# Altium footprint library connectors.PcbLib: 68 footprints (part 3 of 5)
Each footprint in its own frame and in the unit in brackets; x right, y up, seen from the top. Pads: shape width x height; smd on the part's side, far side on the other; paste and mask are expansions set on the pad; w line width, h text height; cw(c..) or ccw(c..) is an arc to the next point about the centre after c.
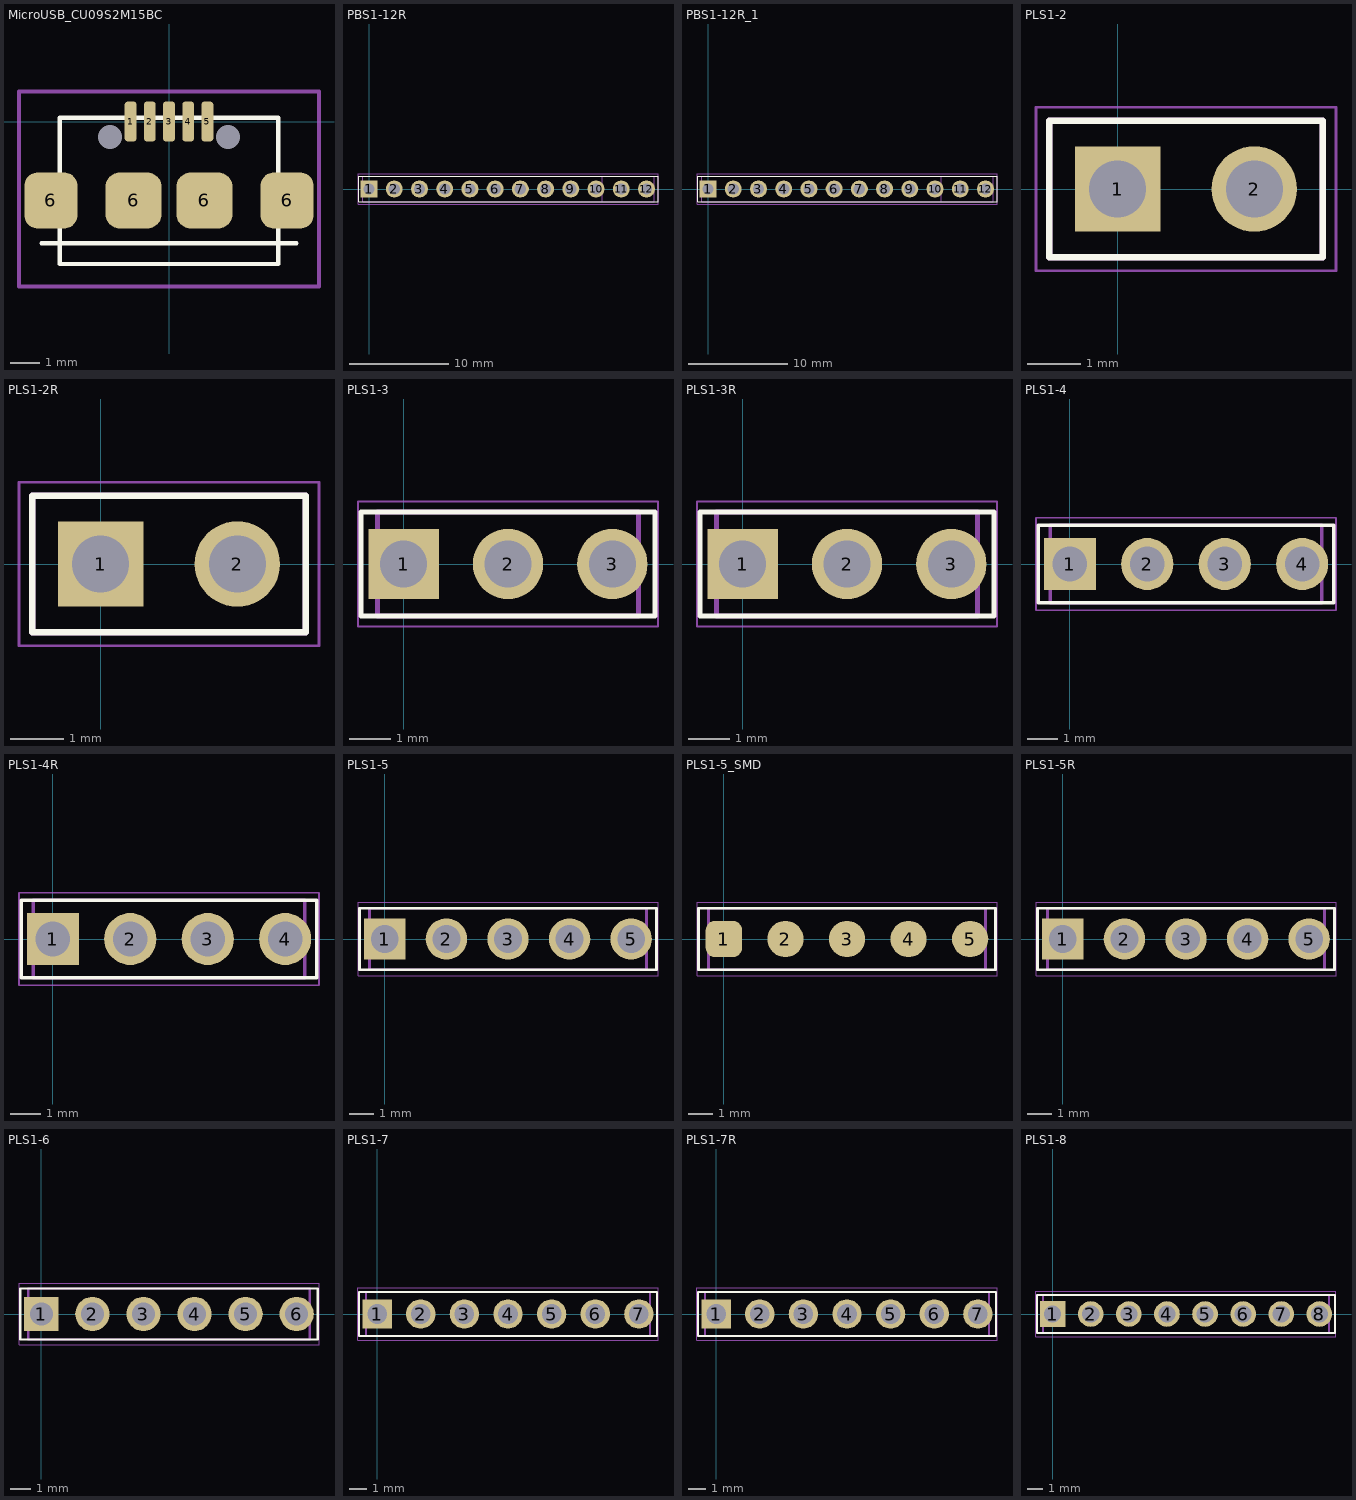
[diagram p2: the footprints below, top view; thin cyan lines are the x and y axes]

## MicroUSB_CU09S2M15BC [mm]
height 2.35
pads (11):
  round 0 hole 0.8 unplated: 0(-2,-0.525) 0(2,-0.525)
  rrect50% 0.4x1.35 smd mask+0.075: 1(-1.3,0) 2(-0.65,0) 3(0,0) 4(0.65,0) 5(1.3,0)
  rrect50% 1.8x1.9 smd: 6(-4,-2.675) 6(4,-2.675)
  rrect50% 1.9x1.9 smd: 6(-1.2,-2.675) 6(1.2,-2.675)
Top Overlay:
  lines w0.15: -4.318,-4.125 4.318,-4.125 ; -3.7,-2.921 -4.445,-2.921 -4.191,-2.667 -4.445,-2.413 -3.7,-2.413 ; 3.7,-2.921 4.445,-2.921 4.191,-2.667 4.445,-2.413 3.7,-2.413 ; -3.7,-4.825 3.7,-4.825 3.7,0.127 -3.7,0.127 -3.7,-4.825
Mechanical 15:
  lines w0.15: -5.08,-5.588 -5.08,-2.54 -5.08,0.762 -5.08,1.016 5.08,1.016 5.08,-5.588 -5.08,-5.588

## PBS1-12R [mm] "Header, Vertical, 2.54 mm pitch; 0.70 mm lead width, 10 pins, 1 row, 10 pins per row, 24.13 mm L X 2.54 mm W X 7.54 mm H body"
height 7.54
pads (12):
  rect 1.71x1.71 hole 1.14 paste-2539.97: 1(0,0)
  round 1.71 hole 1.14 paste-2539.97: 2(2.54,0) 3(5.08,0) 4(7.62,0) 5(10.16,0) 6(12.7,0) 7(15.24,0) 8(17.78,0) 9(20.32,0) 10(22.86,0) 11(25.4,0) 12(27.94,0)
Top Overlay:
  lines w0.12: -1.04,-1.27 -1.04,1.27 29.1,1.27 29.1,-1.27 -1.04,-1.27
Mechanical 11:
  lines w0.12: -0.64,-1.27 -0.64,1.27 28.7,1.27 28.7,-1.27 -0.64,-1.27
Mechanical 12:
  lines w0.025: -0.635,-1.27 -0.635,1.27 23.495,1.27 23.495,-1.27 -0.635,-1.27 ; -0.35,-0.35 -0.35,0.35 0.35,0.35 0.35,-0.35 -0.35,-0.35 ; 2.19,-0.35 2.19,0.35 2.89,0.35 2.89,-0.35 2.19,-0.35 ; 4.73,-0.35 4.73,0.35 5.43,0.35 5.43,-0.35 4.73,-0.35 ; 7.27,-0.35 7.27,0.35 7.97,0.35 7.97,-0.35 7.27,-0.35 ; 9.81,-0.35 9.81,0.35 10.51,0.35 10.51,-0.35 9.81,-0.35 ; 12.35,-0.35 12.35,0.35 13.05,0.35 13.05,-0.35 12.35,-0.35 ; 14.89,-0.35 14.89,0.35 15.59,0.35 15.59,-0.35 14.89,-0.35 ; 17.43,-0.35 17.43,0.35 18.13,0.35 18.13,-0.35 17.43,-0.35 ; 19.97,-0.35 19.97,0.35 20.67,0.35 20.67,-0.35 19.97,-0.35 ; 22.51,-0.35 22.51,0.35 23.21,0.35 23.21,-0.35 22.51,-0.35
Mechanical 15:
  circle w0.05: c0,0 r0.25
  lines w0.05: -0.35,0 0.35,0 ; 0,-0.35 0,0.35 ; -1.11,-1.52 -1.11,1.52 29.1,1.52 29.1,-1.52 -1.11,-1.52
3D body "PinSocket_1x12_P2.54mm_Horizontal.step": height 2.54, standoff -3.3, extent -1.27,-10.03 29.21,0.1

## PBS1-12R_1 [mm] "Header, Vertical, 2.54 mm pitch; 0.70 mm lead width, 10 pins, 1 row, 10 pins per row, 24.13 mm L X 2.54 mm W X 7.54 mm H body"
height 7.54
pads (12):
  rect 1.71x1.71 hole 1.14 paste-2539.97: 1(0,0)
  round 1.71 hole 1.14 paste-2539.97: 2(2.54,0) 3(5.08,0) 4(7.62,0) 5(10.16,0) 6(12.7,0) 7(15.24,0) 8(17.78,0) 9(20.32,0) 10(22.86,0) 11(25.4,0) 12(27.94,0)
Top Overlay:
  lines w0.12: -1.04,-1.27 -1.04,1.27 29.1,1.27 29.1,-1.27 -1.04,-1.27
Mechanical 11:
  lines w0.12: -0.64,-1.27 -0.64,1.27 28.7,1.27 28.7,-1.27 -0.64,-1.27
Mechanical 12:
  lines w0.025: -0.635,-1.27 -0.635,1.27 23.495,1.27 23.495,-1.27 -0.635,-1.27 ; -0.35,-0.35 -0.35,0.35 0.35,0.35 0.35,-0.35 -0.35,-0.35 ; 2.19,-0.35 2.19,0.35 2.89,0.35 2.89,-0.35 2.19,-0.35 ; 4.73,-0.35 4.73,0.35 5.43,0.35 5.43,-0.35 4.73,-0.35 ; 7.27,-0.35 7.27,0.35 7.97,0.35 7.97,-0.35 7.27,-0.35 ; 9.81,-0.35 9.81,0.35 10.51,0.35 10.51,-0.35 9.81,-0.35 ; 12.35,-0.35 12.35,0.35 13.05,0.35 13.05,-0.35 12.35,-0.35 ; 14.89,-0.35 14.89,0.35 15.59,0.35 15.59,-0.35 14.89,-0.35 ; 17.43,-0.35 17.43,0.35 18.13,0.35 18.13,-0.35 17.43,-0.35 ; 19.97,-0.35 19.97,0.35 20.67,0.35 20.67,-0.35 19.97,-0.35 ; 22.51,-0.35 22.51,0.35 23.21,0.35 23.21,-0.35 22.51,-0.35
Mechanical 15:
  circle w0.05: c0,0 r0.25
  lines w0.05: -0.35,0 0.35,0 ; 0,-0.35 0,0.35 ; -1.11,-1.52 -1.11,1.52 29.1,1.52 29.1,-1.52 -1.11,-1.52
3D body "PinSocket_1x12_P2.54mm_Horizontal.step": height 2.54, standoff -3.3, extent -1.27,-0.1 29.21,10.03

## PLS1-2 [mm] "Header, Vertical, 2.54 mm pitch; 0.64 mm lead width, 2 pins, 1 row, 2 pins per row, 5.08 mm L X 2.54 mm W X 8.54 mm H body"
height 8.54
pads (2):
  rect 1.59x1.59 hole 1.06 paste-2539.97: 1(0,0)
  round 1.59 hole 1.06 paste-2539.97: 2(2.54,0)
Top Overlay:
  lines w0.12: -1.27,-1.27 3.81,-1.27 3.81,1.27 -1.27,1.27 -1.27,-1.27
Mechanical 11:
  lines w0.12: -1.27,-1.27 3.81,-1.27 3.81,1.27 -1.27,1.27 -1.27,-1.27
Mechanical 12:
  lines w0.025: -1.27,-1.27 3.81,-1.27 3.81,1.27 -1.27,1.27 -1.27,-1.27 ; -0.32,-0.32 0.32,-0.32 0.32,0.32 -0.32,0.32 -0.32,-0.32 ; 2.22,-0.32 2.86,-0.32 2.86,0.32 2.22,0.32 2.22,-0.32
Mechanical 15:
  circle w0.05: c0,0 r0.25
  lines w0.05: -0.35,0 0.35,0 ; 0,-0.35 0,0.35 ; -1.52,-1.52 4.06,-1.52 4.06,1.52 -1.52,1.52 -1.52,-1.52
3D body "HDRV2W64P254_2X1_508X254H854.STEP": height 8.54, standoff -2.3, extent -1.27,-1.27 3.81,1.27

## PLS1-2R [mm] "Header, Vertical, 2.54 mm pitch; 0.64 mm lead width, 2 pins, 1 row, 2 pins per row, 5.08 mm L X 2.54 mm W X 8.54 mm H body"
height 8.54
pads (2):
  rect 1.59x1.59 hole 1.06 paste-2539.97: 1(0,0)
  round 1.59 hole 1.06 paste-2539.97: 2(2.54,0)
Top Overlay:
  lines w0.12: -1.27,-1.27 3.81,-1.27 3.81,1.27 -1.27,1.27 -1.27,-1.27
Mechanical 11:
  lines w0.12: -1.27,-1.27 3.81,-1.27 3.81,1.27 -1.27,1.27 -1.27,-1.27
Mechanical 12:
  lines w0.025: -1.27,-1.27 3.81,-1.27 3.81,1.27 -1.27,1.27 -1.27,-1.27 ; -0.32,-0.32 0.32,-0.32 0.32,0.32 -0.32,0.32 -0.32,-0.32 ; 2.22,-0.32 2.86,-0.32 2.86,0.32 2.22,0.32 2.22,-0.32
Mechanical 15:
  circle w0.05: c0,0 r0.25
  lines w0.05: -0.35,0 0.35,0 ; 0,-0.35 0,0.35 ; -1.52,-1.52 4.06,-1.52 4.06,1.52 -1.52,1.52 -1.52,-1.52
3D body "PinHeader_1x02_P2.54mm_Horizontal.step": height 2.54, standoff -3, extent -1.27,-0.32 3.81,10.04

## PLS1-3 [mm] "Header, Vertical, 2.54 mm pitch; 0.70 mm lead width, 3 pins, 1 row, 3 pins per row, 6.35 mm L X 2.54 mm W X 7.54 mm H body"
height 7.54
pads (3):
  rect 1.71x1.71 hole 1.14 paste-2539.97: 1(0,0)
  round 1.71 hole 1.14 paste-2539.97: 2(2.54,0) 3(5.08,0)
Top Overlay:
  lines w0.12: -1.04,-1.27 6.12,-1.27 6.12,1.27 -1.04,1.27 -1.04,-1.27
Mechanical 11:
  lines w0.12: -0.64,-1.27 5.72,-1.27 5.72,1.27 -0.64,1.27 -0.64,-1.27
Mechanical 12:
  lines w0.025: -0.635,-1.27 5.715,-1.27 5.715,1.27 -0.635,1.27 -0.635,-1.27 ; -0.35,-0.35 0.35,-0.35 0.35,0.35 -0.35,0.35 -0.35,-0.35 ; 2.19,-0.35 2.89,-0.35 2.89,0.35 2.19,0.35 2.19,-0.35 ; 4.73,-0.35 5.43,-0.35 5.43,0.35 4.73,0.35 4.73,-0.35
Mechanical 15:
  circle w0.05: c0,0 r0.25
  lines w0.05: -0.35,0 0.35,0 ; 0,-0.35 0,0.35 ; -1.11,-1.52 6.19,-1.52 6.19,1.52 -1.11,1.52 -1.11,-1.52
3D body "HDRV3W70P254_3X1_635X254H754.STEP": height 7.54, standoff -2.3, extent -0.635,-1.27 5.715,1.27

## PLS1-3R [mm] "Header, Vertical, 2.54 mm pitch; 0.70 mm lead width, 3 pins, 1 row, 3 pins per row, 6.35 mm L X 2.54 mm W X 7.54 mm H body"
height 7.54
pads (3):
  rect 1.71x1.71 hole 1.14 paste-2539.97: 1(0,0)
  round 1.71 hole 1.14 paste-2539.97: 2(2.54,0) 3(5.08,0)
Top Overlay:
  lines w0.12: -1.04,-1.27 6.12,-1.27 6.12,1.27 -1.04,1.27 -1.04,-1.27
Mechanical 11:
  lines w0.12: -0.64,-1.27 5.72,-1.27 5.72,1.27 -0.64,1.27 -0.64,-1.27
Mechanical 12:
  lines w0.025: -0.635,-1.27 5.715,-1.27 5.715,1.27 -0.635,1.27 -0.635,-1.27 ; -0.35,-0.35 0.35,-0.35 0.35,0.35 -0.35,0.35 -0.35,-0.35 ; 2.19,-0.35 2.89,-0.35 2.89,0.35 2.19,0.35 2.19,-0.35 ; 4.73,-0.35 5.43,-0.35 5.43,0.35 4.73,0.35 4.73,-0.35
Mechanical 15:
  circle w0.05: c0,0 r0.25
  lines w0.05: -0.35,0 0.35,0 ; 0,-0.35 0,0.35 ; -1.11,-1.52 6.19,-1.52 6.19,1.52 -1.11,1.52 -1.11,-1.52
3D body "PinHeader_1x03_P2.54mm_Horizontal.step": height 2.54, standoff -3, extent -1.27,-0.32 6.35,10.04

## PLS1-4 [mm] "Header, Vertical, 2.54 mm pitch; 0.70 mm lead width, 4 pins, 1 row, 4 pins per row, 8.89 mm L X 2.54 mm W X 7.54 mm H body"
height 7.54
pads (4):
  rect 1.71x1.71 hole 1.14 paste-2539.97: 1(0,0)
  round 1.71 hole 1.14 paste-2539.97: 2(2.54,0) 3(5.08,0) 4(7.62,0)
Top Overlay:
  lines w0.12: -1.04,-1.27 8.66,-1.27 8.66,1.27 -1.04,1.27 -1.04,-1.27
Mechanical 11:
  lines w0.12: -0.64,-1.27 8.26,-1.27 8.26,1.27 -0.64,1.27 -0.64,-1.27
Mechanical 12:
  lines w0.025: -0.635,-1.27 8.255,-1.27 8.255,1.27 -0.635,1.27 -0.635,-1.27 ; -0.35,-0.35 0.35,-0.35 0.35,0.35 -0.35,0.35 -0.35,-0.35 ; 2.19,-0.35 2.89,-0.35 2.89,0.35 2.19,0.35 2.19,-0.35 ; 4.73,-0.35 5.43,-0.35 5.43,0.35 4.73,0.35 4.73,-0.35 ; 7.27,-0.35 7.97,-0.35 7.97,0.35 7.27,0.35 7.27,-0.35
Mechanical 15:
  circle w0.05: c0,0 r0.25
  lines w0.05: -0.35,0 0.35,0 ; 0,-0.35 0,0.35 ; -1.11,-1.52 8.73,-1.52 8.73,1.52 -1.11,1.52 -1.11,-1.52
3D body "HDRV4W70P254_4X1_889X254H754.STEP": height 7.54, standoff -2.3, extent -0.635,-1.27 8.255,1.27

## PLS1-4R [mm] "Header, Vertical, 2.54 mm pitch; 0.70 mm lead width, 4 pins, 1 row, 4 pins per row, 8.89 mm L X 2.54 mm W X 7.54 mm H body"
height 7.54
pads (4):
  rect 1.71x1.71 hole 1.14 paste-2539.97: 1(0,0)
  round 1.71 hole 1.14 paste-2539.97: 2(2.54,0) 3(5.08,0) 4(7.62,0)
Top Overlay:
  lines w0.12: -1.04,-1.27 8.66,-1.27 8.66,1.27 -1.04,1.27 -1.04,-1.27
Mechanical 11:
  lines w0.12: -0.64,-1.27 8.26,-1.27 8.26,1.27 -0.64,1.27 -0.64,-1.27
Mechanical 12:
  lines w0.025: -0.635,-1.27 8.255,-1.27 8.255,1.27 -0.635,1.27 -0.635,-1.27 ; -0.35,-0.35 0.35,-0.35 0.35,0.35 -0.35,0.35 -0.35,-0.35 ; 2.19,-0.35 2.89,-0.35 2.89,0.35 2.19,0.35 2.19,-0.35 ; 4.73,-0.35 5.43,-0.35 5.43,0.35 4.73,0.35 4.73,-0.35 ; 7.27,-0.35 7.97,-0.35 7.97,0.35 7.27,0.35 7.27,-0.35
Mechanical 15:
  circle w0.05: c0,0 r0.25
  lines w0.05: -0.35,0 0.35,0 ; 0,-0.35 0,0.35 ; -1.11,-1.52 8.73,-1.52 8.73,1.52 -1.11,1.52 -1.11,-1.52
3D body "PinHeader_1x04_P2.54mm_Horizontal.step": height 2.54, standoff -3, extent -1.27,-0.32 8.89,10.04

## PLS1-5 [mm] "Header, Vertical, 2.54 mm pitch; 0.70 mm lead width, 5 pins, 1 row, 5 pins per row, 11.43 mm L X 2.54 mm W X 7.54 mm H body"
height 7.54
pads (5):
  rect 1.71x1.71 hole 1.14 paste-2539.97: 1(0,0)
  round 1.71 hole 1.14 paste-2539.97: 2(2.54,0) 3(5.08,0) 4(7.62,0) 5(10.16,0)
Top Overlay:
  lines w0.12: -1.04,-1.27 -1.04,1.27 11.2,1.27 11.2,-1.27 -1.04,-1.27
Mechanical 11:
  lines w0.12: -0.64,-1.27 -0.64,1.27 10.8,1.27 10.8,-1.27 -0.64,-1.27
Mechanical 12:
  lines w0.025: -0.635,-1.27 -0.635,1.27 10.795,1.27 10.795,-1.27 -0.635,-1.27 ; -0.35,-0.35 -0.35,0.35 0.35,0.35 0.35,-0.35 -0.35,-0.35 ; 2.19,-0.35 2.19,0.35 2.89,0.35 2.89,-0.35 2.19,-0.35 ; 4.73,-0.35 4.73,0.35 5.43,0.35 5.43,-0.35 4.73,-0.35 ; 7.27,-0.35 7.27,0.35 7.97,0.35 7.97,-0.35 7.27,-0.35 ; 9.81,-0.35 9.81,0.35 10.51,0.35 10.51,-0.35 9.81,-0.35
Mechanical 15:
  circle w0.05: c0,0 r0.25
  lines w0.05: -0.35,0 0.35,0 ; 0,-0.35 0,0.35 ; -1.11,-1.52 -1.11,1.52 11.27,1.52 11.27,-1.52 -1.11,-1.52
3D body "HDRV5W70P254_5X1_1143X254H754.STEP": height 7.54, standoff -2.3, extent -0.635,-1.27 10.795,1.27

## PLS1-5_SMD [mm] "For SWD"
height 7.54
pads (5):
  rrect50% 1.5x1.5 smd paste-2539.97: 1(0,0)
  round 1.5 smd paste-2539.97: 2(2.54,0) 3(5.08,0) 4(7.62,0) 5(10.16,0)
Top Overlay:
  lines w0.12: -1.04,-1.27 -1.04,1.27 11.2,1.27 11.2,-1.27 -1.04,-1.27
Mechanical 11:
  lines w0.12: -0.64,-1.27 -0.64,1.27 10.8,1.27 10.8,-1.27 -0.64,-1.27
Mechanical 12:
  lines w0.025: -0.635,-1.27 -0.635,1.27 10.795,1.27 10.795,-1.27 -0.635,-1.27 ; -0.35,-0.35 -0.35,0.35 0.35,0.35 0.35,-0.35 -0.35,-0.35 ; 2.19,-0.35 2.19,0.35 2.89,0.35 2.89,-0.35 2.19,-0.35 ; 4.73,-0.35 4.73,0.35 5.43,0.35 5.43,-0.35 4.73,-0.35 ; 7.27,-0.35 7.27,0.35 7.97,0.35 7.97,-0.35 7.27,-0.35 ; 9.81,-0.35 9.81,0.35 10.51,0.35 10.51,-0.35 9.81,-0.35
Mechanical 15:
  circle w0.05: c0,0 r0.25
  lines w0.05: -0.35,0 0.35,0 ; 0,-0.35 0,0.35 ; -1.11,-1.52 -1.11,1.52 11.27,1.52 11.27,-1.52 -1.11,-1.52

## PLS1-5R [mm] "Header, Vertical, 2.54 mm pitch; 0.70 mm lead width, 5 pins, 1 row, 5 pins per row, 11.43 mm L X 2.54 mm W X 7.54 mm H body"
height 7.54
pads (5):
  rect 1.71x1.71 hole 1.14 paste-2539.97: 1(0,0)
  round 1.71 hole 1.14 paste-2539.97: 2(2.54,0) 3(5.08,0) 4(7.62,0) 5(10.16,0)
Top Overlay:
  lines w0.12: -1.04,-1.27 11.2,-1.27 11.2,1.27 -1.04,1.27 -1.04,-1.27
Mechanical 11:
  lines w0.12: -0.64,-1.27 10.8,-1.27 10.8,1.27 -0.64,1.27 -0.64,-1.27
Mechanical 12:
  lines w0.025: -0.635,-1.27 10.795,-1.27 10.795,1.27 -0.635,1.27 -0.635,-1.27 ; -0.35,-0.35 0.35,-0.35 0.35,0.35 -0.35,0.35 -0.35,-0.35 ; 2.19,-0.35 2.89,-0.35 2.89,0.35 2.19,0.35 2.19,-0.35 ; 4.73,-0.35 5.43,-0.35 5.43,0.35 4.73,0.35 4.73,-0.35 ; 7.27,-0.35 7.97,-0.35 7.97,0.35 7.27,0.35 7.27,-0.35 ; 9.81,-0.35 10.51,-0.35 10.51,0.35 9.81,0.35 9.81,-0.35
Mechanical 15:
  circle w0.05: c0,0 r0.25
  lines w0.05: -0.35,0 0.35,0 ; 0,-0.35 0,0.35 ; -1.11,-1.52 11.27,-1.52 11.27,1.52 -1.11,1.52 -1.11,-1.52
3D body "PinHeader_1x05_P2.54mm_Horizontal.step": height 2.54, standoff -3, extent -1.27,-0.32 11.43,10.04

## PLS1-6 [mm] "Header, Vertical, 2.54 mm pitch; 0.70 mm lead width, 6 pins, 1 row, 6 pins per row, 13.97 mm L X 2.54 mm W X 7.54 mm H body"
height 7.54
pads (6):
  rect 1.71x1.71 hole 1.14 paste-2539.97: 1(0,0)
  round 1.71 hole 1.14 paste-2539.97: 2(2.54,0) 3(5.08,0) 4(7.62,0) 5(10.16,0) 6(12.7,0)
Top Overlay:
  lines w0.12: -1.04,-1.27 -1.04,1.27 13.74,1.27 13.74,-1.27 -1.04,-1.27
Mechanical 11:
  lines w0.12: -0.64,-1.27 -0.64,1.27 13.34,1.27 13.34,-1.27 -0.64,-1.27
Mechanical 12:
  lines w0.025: -0.635,-1.27 -0.635,1.27 13.335,1.27 13.335,-1.27 -0.635,-1.27 ; -0.35,-0.35 -0.35,0.35 0.35,0.35 0.35,-0.35 -0.35,-0.35 ; 2.19,-0.35 2.19,0.35 2.89,0.35 2.89,-0.35 2.19,-0.35 ; 4.73,-0.35 4.73,0.35 5.43,0.35 5.43,-0.35 4.73,-0.35 ; 7.27,-0.35 7.27,0.35 7.97,0.35 7.97,-0.35 7.27,-0.35 ; 9.81,-0.35 9.81,0.35 10.51,0.35 10.51,-0.35 9.81,-0.35 ; 12.35,-0.35 12.35,0.35 13.05,0.35 13.05,-0.35 12.35,-0.35
Mechanical 15:
  circle w0.05: c0,0 r0.25
  lines w0.05: -0.35,0 0.35,0 ; 0,-0.35 0,0.35 ; -1.11,-1.52 -1.11,1.52 13.81,1.52 13.81,-1.52 -1.11,-1.52
3D body "HDRV6W70P254_6X1_1397X254H754.STEP": height 7.54, standoff -2.3, extent -0.635,-1.27 13.335,1.27

## PLS1-7 [mm] "Header, Vertical, 2.54 mm pitch; 0.70 mm lead width, 7 pins, 1 row, 7 pins per row, 16.51 mm L X 2.54 mm W X 7.54 mm H body"
height 7.54
pads (7):
  rect 1.71x1.71 hole 1.14 paste-2539.97: 1(0,0)
  round 1.71 hole 1.14 paste-2539.97: 2(2.54,0) 3(5.08,0) 4(7.62,0) 5(10.16,0) 6(12.7,0) 7(15.24,0)
Top Overlay:
  lines w0.12: -1.04,-1.27 -1.04,1.27 16.28,1.27 16.28,-1.27 -1.04,-1.27
Mechanical 11:
  lines w0.12: -0.64,-1.27 -0.64,1.27 15.88,1.27 15.88,-1.27 -0.64,-1.27
Mechanical 12:
  lines w0.025: -0.635,-1.27 -0.635,1.27 15.875,1.27 15.875,-1.27 -0.635,-1.27 ; -0.35,-0.35 -0.35,0.35 0.35,0.35 0.35,-0.35 -0.35,-0.35 ; 2.19,-0.35 2.19,0.35 2.89,0.35 2.89,-0.35 2.19,-0.35 ; 4.73,-0.35 4.73,0.35 5.43,0.35 5.43,-0.35 4.73,-0.35 ; 7.27,-0.35 7.27,0.35 7.97,0.35 7.97,-0.35 7.27,-0.35 ; 9.81,-0.35 9.81,0.35 10.51,0.35 10.51,-0.35 9.81,-0.35 ; 12.35,-0.35 12.35,0.35 13.05,0.35 13.05,-0.35 12.35,-0.35 ; 14.89,-0.35 14.89,0.35 15.59,0.35 15.59,-0.35 14.89,-0.35
Mechanical 15:
  circle w0.05: c0,0 r0.25
  lines w0.05: -0.35,0 0.35,0 ; 0,-0.35 0,0.35 ; -1.11,-1.52 -1.11,1.52 16.35,1.52 16.35,-1.52 -1.11,-1.52
3D body "HDRV7W70P254_7X1_1651X254H754.STEP": height 7.54, standoff -2.3, extent -0.635,-1.27 15.875,1.27

## PLS1-7R [mm] "Header, Vertical, 2.54 mm pitch; 0.70 mm lead width, 7 pins, 1 row, 7 pins per row, 16.51 mm L X 2.54 mm W X 7.54 mm H body"
height 7.54
pads (7):
  rect 1.71x1.71 hole 1.14 paste-2539.97: 1(0,0)
  round 1.71 hole 1.14 paste-2539.97: 2(2.54,0) 3(5.08,0) 4(7.62,0) 5(10.16,0) 6(12.7,0) 7(15.24,0)
Top Overlay:
  lines w0.12: -1.04,-1.27 -1.04,1.27 16.28,1.27 16.28,-1.27 -1.04,-1.27
Mechanical 11:
  lines w0.12: -0.64,-1.27 -0.64,1.27 15.88,1.27 15.88,-1.27 -0.64,-1.27
Mechanical 12:
  lines w0.025: -0.635,-1.27 -0.635,1.27 15.875,1.27 15.875,-1.27 -0.635,-1.27 ; -0.35,-0.35 -0.35,0.35 0.35,0.35 0.35,-0.35 -0.35,-0.35 ; 2.19,-0.35 2.19,0.35 2.89,0.35 2.89,-0.35 2.19,-0.35 ; 4.73,-0.35 4.73,0.35 5.43,0.35 5.43,-0.35 4.73,-0.35 ; 7.27,-0.35 7.27,0.35 7.97,0.35 7.97,-0.35 7.27,-0.35 ; 9.81,-0.35 9.81,0.35 10.51,0.35 10.51,-0.35 9.81,-0.35 ; 12.35,-0.35 12.35,0.35 13.05,0.35 13.05,-0.35 12.35,-0.35 ; 14.89,-0.35 14.89,0.35 15.59,0.35 15.59,-0.35 14.89,-0.35
Mechanical 15:
  circle w0.05: c0,0 r0.25
  lines w0.05: -0.35,0 0.35,0 ; 0,-0.35 0,0.35 ; -1.11,-1.52 -1.11,1.52 16.35,1.52 16.35,-1.52 -1.11,-1.52
3D body "PinHeader_1x07_P2.54mm_Horizontal.step": height 2.54, standoff -3, extent -1.27,-0.32 16.51,10.04

## PLS1-8 [mm] "Header, Vertical, 2.54 mm pitch; 0.70 mm lead width, 8 pins, 1 row, 8 pins per row, 19.05 mm L X 2.54 mm W X 7.54 mm H body"
height 7.54
pads (8):
  rect 1.71x1.71 hole 1.14 paste-2539.97: 1(0,0)
  round 1.71 hole 1.14 paste-2539.97: 2(2.54,0) 3(5.08,0) 4(7.62,0) 5(10.16,0) 6(12.7,0) 7(15.24,0) 8(17.78,0)
Top Overlay:
  lines w0.12: -1.04,-1.27 18.82,-1.27 18.82,1.27 -1.04,1.27 -1.04,-1.27
Mechanical 11:
  lines w0.12: -0.64,-1.27 18.42,-1.27 18.42,1.27 -0.64,1.27 -0.64,-1.27
Mechanical 12:
  lines w0.025: -0.635,-1.27 18.415,-1.27 18.415,1.27 -0.635,1.27 -0.635,-1.27 ; -0.35,-0.35 0.35,-0.35 0.35,0.35 -0.35,0.35 -0.35,-0.35 ; 2.19,-0.35 2.89,-0.35 2.89,0.35 2.19,0.35 2.19,-0.35 ; 4.73,-0.35 5.43,-0.35 5.43,0.35 4.73,0.35 4.73,-0.35 ; 7.27,-0.35 7.97,-0.35 7.97,0.35 7.27,0.35 7.27,-0.35 ; 9.81,-0.35 10.51,-0.35 10.51,0.35 9.81,0.35 9.81,-0.35 ; 12.35,-0.35 13.05,-0.35 13.05,0.35 12.35,0.35 12.35,-0.35 ; 14.89,-0.35 15.59,-0.35 15.59,0.35 14.89,0.35 14.89,-0.35 ; 17.43,-0.35 18.13,-0.35 18.13,0.35 17.43,0.35 17.43,-0.35
Mechanical 15:
  circle w0.05: c0,0 r0.25
  lines w0.05: -0.35,0 0.35,0 ; 0,-0.35 0,0.35 ; -1.11,-1.52 18.89,-1.52 18.89,1.52 -1.11,1.52 -1.11,-1.52
3D body "HDRV8W70P254_8X1_1905X254H754.STEP": height 7.54, standoff -2.3, extent -0.635,-1.27 18.415,1.27